# Altium schematic symbol library MJTP1117 SPST Switch.SchLib: 1 symbol
Pins are listed as number, name and electrical type; pins without a type are passive.

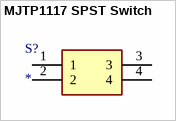
[diagram p0: symbol MJTP1117 SPST Switch]

## MJTP1117 SPST Switch
designator S?
Switch; Manufacturer_Name: Apem; Manufacturer_Part_Number: MJTP1117; Datasheet Link: https://media.digikey.com/pdf/Data%20Sheets/APEM%20Components%20PDFs/MJTP%20Series-6MM.pdf; Height: 4.3mm; Mouser Part Number: 642-MJTP1117; Mouser Price/Stock: https://www.mouser.co.uk/ProductDetail/Apem/MJTP1117?qs=6hR9CYnVCPAeQNDPI%2FtCng%3D%3D
footprint MJTP1117
pins: 1, 2, 3, 4